# EAGLE library part BU1850MUV (library ic-Rohm)
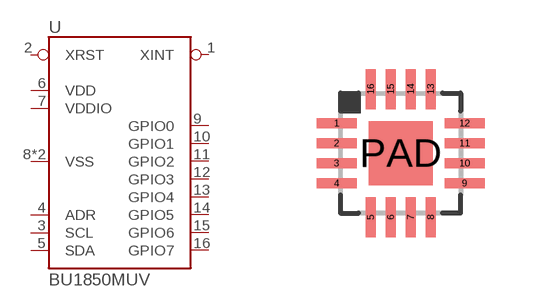
[diagram p0: symbol with the pads of QFN16-0.5; footprint QFN16-0.5]

Designator prefix U

## BU1850MUV  [QFN16-0.5]
1  XINT
2  XRST
3  SCL
4  ADR
5  SDA
6  VDD
7  VDDIO
8  VSS
9  GPIO0
10  GPIO1
11  GPIO2
12  GPIO3
13  GPIO4
14  GPIO5
15  GPIO6
16  GPIO7
PAD  VSS

## Footprint QFN16-0.5 (pad centres in mm)
smd 1 x 0.25: 1 -1.6,0.75; 2 -1.6,0.25; 3 -1.6,-0.25; 4 -1.6,-0.75; 9 1.6,-0.75; 10 1.6,-0.25; 11 1.6,0.25; 12 1.6,0.75
smd 0.25 x 1: 5 -0.75,-1.6; 6 -0.25,-1.6; 7 0.25,-1.6; 8 0.75,-1.6; 13 0.75,1.6; 14 0.25,1.6; 15 -0.25,1.6; 16 -0.75,1.6
smd 1.6 x 1.6: PAD 0,0